# EAGLE library part 53261-0871 (library MSMG)
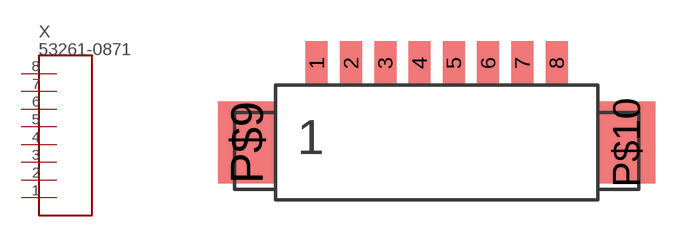
[diagram p2: symbol with the pads of 53261-0871; footprint 53261-0871]

Designator prefix X

## 53261-0871  [53261-0871]
1  1
2  2
3  3
4  4
5  5
6  6
7  7
8  8

## Footprint 53261-0871 (pad centres in mm)
molex 53261-0871
smd 0.8 x 1.6: 1 -4.375,0.8; 2 -3.125,0.8; 3 -1.875,0.8; 4 -0.625,0.8; 5 0.625,0.8; 6 1.875,0.8; 7 3.125,0.8; 8 4.375,0.8
smd 2.1 x 3: P$9 -6.925,-2.1; P$10 6.925,-2.1